# EAGLE library part POS-XX (library ic)
POS-xx: Voltage-controlled oscillator (Mini-Circuits) Usable for all plug-in VCOs with A06 case (no suffix or W suffix), e.g., POS-25, POS-100, POS-500W
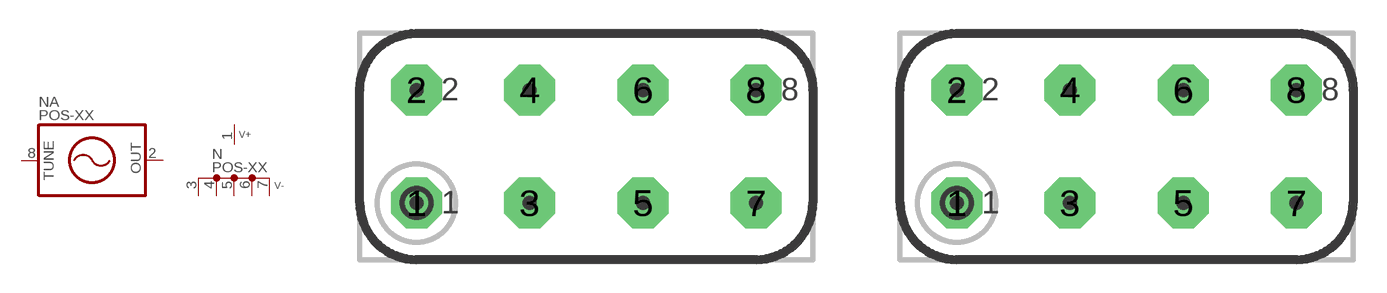
[diagram p45: symbol with the pads of MC-A01N; footprints MC-A01N, MC-A01G]

Designator prefix N; gates A=VCO01 P=V+5-

## POS-XX  [MC-A01N]
1  P:V+  pwr
2  A:OUT  out
3  P:V-  pwr
4  P:V-  pwr
5  P:V-  pwr
6  P:V-  pwr
7  P:V-  pwr
8  A:TUNE  in

## POS-XXG  [MC-A01G]
Pads as for MC-A01N

## Footprint MC-A01N (pad centres in mm)
Mini-Circuits A01 Metal case (20*10mm), 8 pins, Broken top plane
drill 0.991 pad 2.286 octagon: 1 -7.62,-2.54; 2 -7.62,2.54; 3 -2.54,-2.54; 4 -2.54,2.54; 5 2.54,-2.54; 6 2.54,2.54; 7 7.62,-2.54; 8 7.62,2.54

## Footprint MC-A01G (pad centres in mm)
Mini-Circuits A01 Metal case (20*10mm), 8 pins
drill 0.991 pad 2.286 octagon: 1 -7.62,-2.54; 2 -7.62,2.54; 3 -2.54,-2.54; 4 -2.54,2.54; 5 2.54,-2.54; 6 2.54,2.54; 7 7.62,-2.54; 8 7.62,2.54